# Altium integrated library Analog Devices Data Converters Digital-to-Analog Converters.IntLib: 2231 symbols (part 8 of 181)
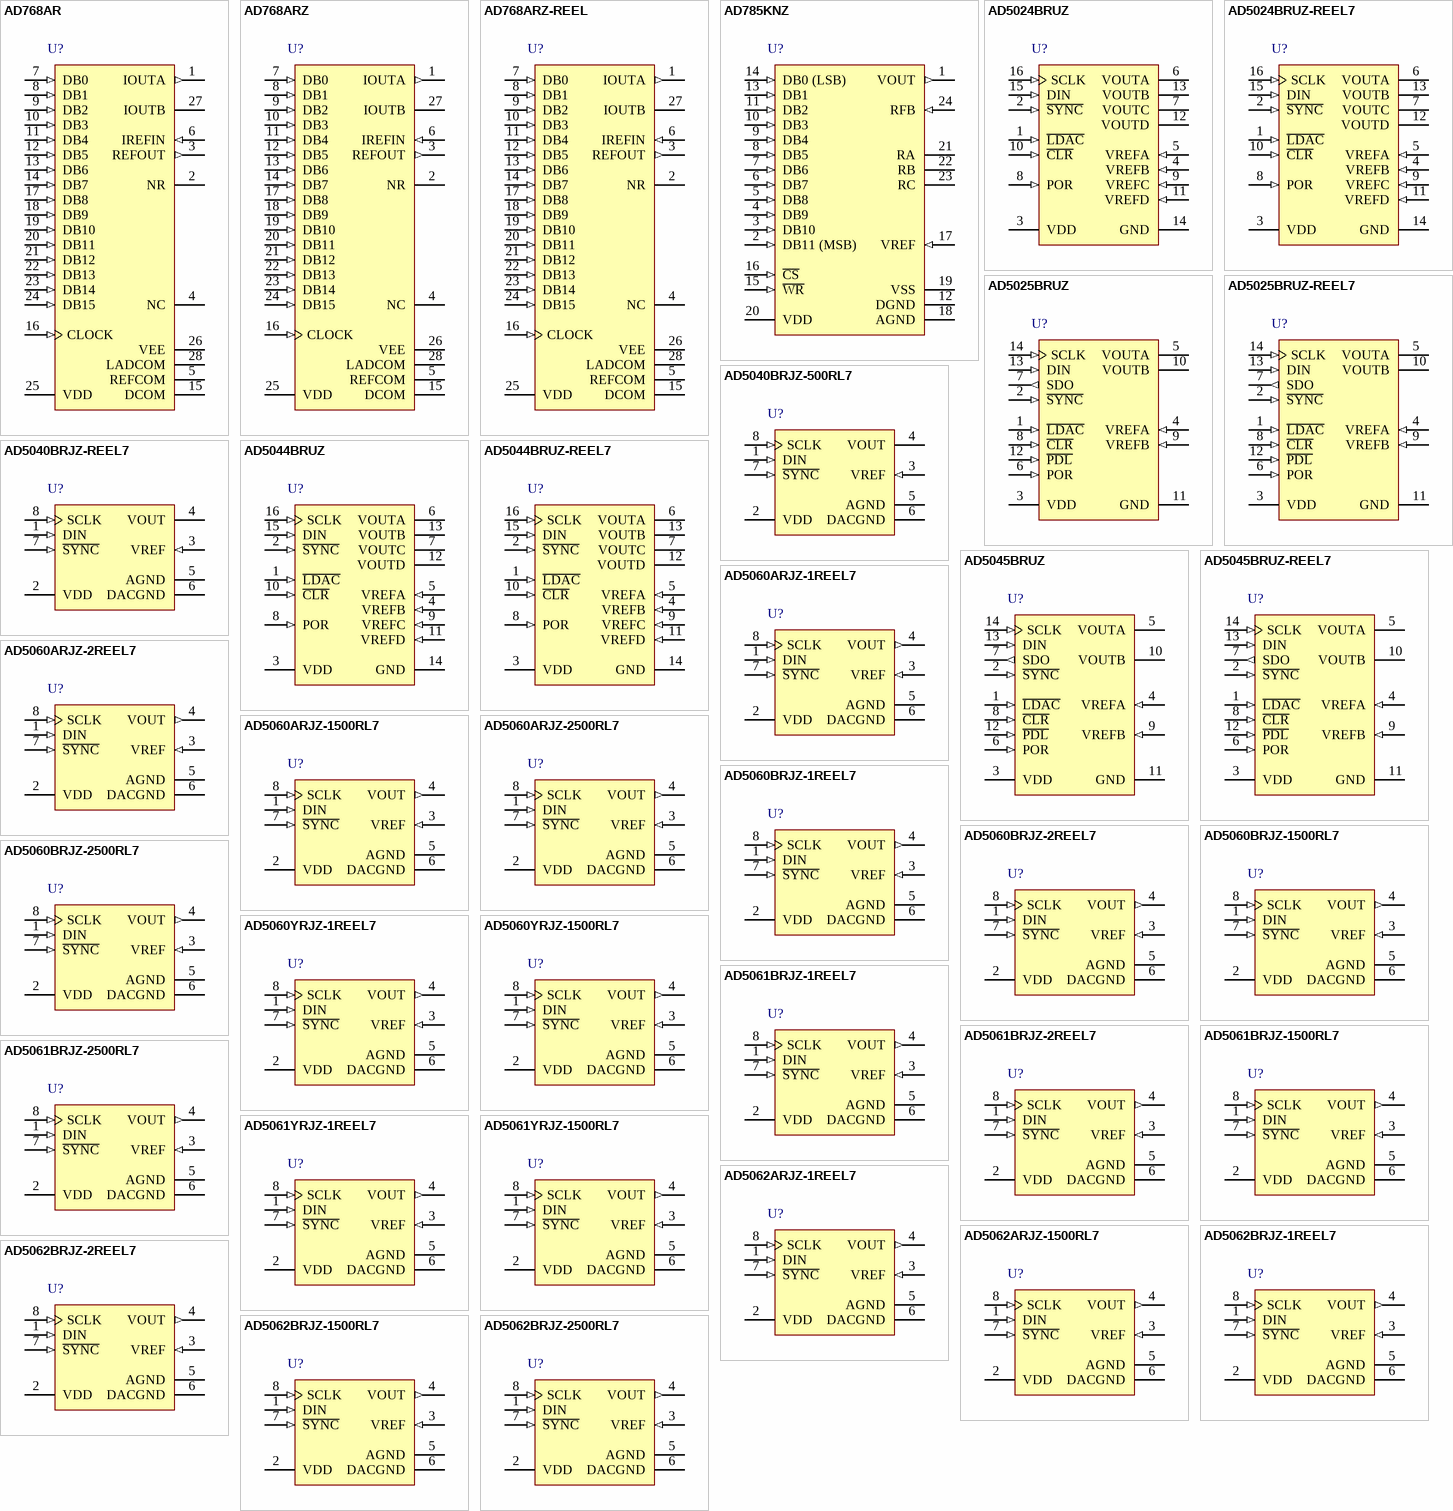
[diagram p121: symbols AD768AR to AD5062BRJZ-2500RL7]

## AD768AR
designator U?
Single 16-Bit Digital-to-Analog Converter, -40 to +85 degC, RW-28, Tube; Generic Part Number: AD768; Manufacturer: Analog Devices; PartNumber: AD768AR; # DAC Outputs: 1; Max V+: 5.25V; Op Pwr Diss: 600mW; Resolution (Bits): 16; Settling Time: 25ns; Single Supply: No; DatasheetVersion: Rev.B; PackageVersion: 060706-A; PackageReference: RW-28; PackageDescription: 28-Lead Standard Small Outline Package [SOIC_W]; Supplier 1: Digi-Key; Supplier Part Number 1: AD768AR-ND; Supplier 2: Mouser; Supplier Part Number 2: 584-AD768AR; Packing: Tube; RoHS: N; Mounting Technology: Surface Mount; Code_JEDEC: MS-013-AE; ComponentLink1Description: Manufacturer URL; ComponentLink1URL: http://www.analog.com/en/index.html; ComponentLink2Description: Datasheet; ComponentLink2URL: http://www.analog.com/static/imported-files/data_sheets/AD768.pdf; ComponentLink3Description: Product URL; ComponentLink3URL: http://www.analog.com/en/digital-to-analog-converters/da-converters/ad768/products/product.html
footprint RW-28_N (SOIC, 28-Leads, Body 17.9x7.5mm, Pitch 1.27mm, IPC Medium Density)
footprint RW-28_L (SOIC, 28-Leads, Body 17.9x7.5mm, Pitch 1.27mm, IPC High Density)
footprint RW-28_M (SOIC, 28-Leads, Body 17.9x7.5mm, Pitch 1.27mm, IPC Low Density)
pins: 1 IOUTA (out) "DAC Current Output. Full-scale current when all data bits are 1s.", 2 NR "Noise Reduction Node. Add capacitor for noise reduction.", 3 REFOUT (out) "Reference Output Voltage. Nominal value is 2.5 V.", 4 NC "No Connect. Reserved for internal use.", 5 REFCOM (power) "Reference Ground.", 6 IREFIN (in) "Reference Input Current. Nominal is 5 mA. DAC full-scale is 4x this current.", 7 DB0 (in) "Data Bit 0 (LSB).", 8 DB1 (in) "Data Bit 1", 9 DB2 (in) "Data Bit 2", 10 DB3 (in) "Data Bit 3", 11 DB4 (in) "Data Bit 4", 12 DB5 (in) "Data Bit 5", 13 DB6 (in) "Data Bit 6", 14 DB7 (in) "Data Bit 7", 15 DCOM (power) "Digital Ground.", 16 CLOCK (in) "Clock Input. Data latched on positive edge of clock.", 17 DB8 (in) "Data Bit 8", 18 DB9 (in) "Data Bit 9", 19 DB10 (in) "Data Bit 10", 20 DB11 (in) "Data Bit 11", 21 DB12 (in) "Data Bit 12", 22 DB13 (in) "Data Bit 13", 23 DB14 (in) "Data Bit 14", 24 DB15 (in) "Data Bit 15 (MSB).", 25 VDD (power) "Positive Supply Voltage. Nominal is +5 V.", 26 VEE (power) "Negative Supply Voltage. Nominal is -5 V.", 27 IOUTB "Complementary DAC Current Output. Full-scale current when all data bits are 0s.", 28 LADCOM (power) "DAC Ladder Common."

## AD768ARZ
designator U?
Single 16-Bit Digital-to-Analog Converter, -40 to +85 degC, RW-28, Pb-Free, Tube; Generic Part Number: AD768; Manufacturer: Analog Devices; PartNumber: AD768ARZ; # DAC Outputs: 1; Max V+: 5.25V; Op Pwr Diss: 600mW; Resolution (Bits): 16; Settling Time: 25ns; Single Supply: No; DatasheetVersion: Rev.B; PackageVersion: 060706-A; PackageReference: RW-28; PackageDescription: 28-Lead Standard Small Outline Package [SOIC_W]; Supplier 1: Digi-Key; Supplier Part Number 1: AD768ARZ-ND; Supplier 2: Farnell; Supplier Part Number 2: 9426442; Supplier 3: Newark; Supplier Part Number 3: 15P0834; Supplier 4: Newark; Supplier Part Number 4: 96K2103; Supplier 5: Mouser; Supplier Part Number 5: 584-AD768ARZ; Packing: Tube; RoHS: Y; Mounting Technology: Surface Mount; Code_JEDEC: MS-013-AE; ComponentLink1Description: Manufacturer URL; ComponentLink1URL: http://www.analog.com/en/index.html; ComponentLink2Description: Datasheet; ComponentLink2URL: http://www.analog.com/static/imported-files/data_sheets/AD768.pdf; ComponentLink3Description: Product URL; ComponentLink3URL: http://www.analog.com/en/digital-to-analog-converters/da-converters/ad768/products/product.html
footprint RW-28_N (SOIC, 28-Leads, Body 17.9x7.5mm, Pitch 1.27mm, IPC Medium Density)
footprint RW-28_L (SOIC, 28-Leads, Body 17.9x7.5mm, Pitch 1.27mm, IPC High Density)
footprint RW-28_M (SOIC, 28-Leads, Body 17.9x7.5mm, Pitch 1.27mm, IPC Low Density)
pins: 1 IOUTA (out) "DAC Current Output. Full-scale current when all data bits are 1s.", 2 NR "Noise Reduction Node. Add capacitor for noise reduction.", 3 REFOUT (out) "Reference Output Voltage. Nominal value is 2.5 V.", 4 NC "No Connect. Reserved for internal use.", 5 REFCOM (power) "Reference Ground.", 6 IREFIN (in) "Reference Input Current. Nominal is 5 mA. DAC full-scale is 4x this current.", 7 DB0 (in) "Data Bit 0 (LSB).", 8 DB1 (in) "Data Bit 1", 9 DB2 (in) "Data Bit 2", 10 DB3 (in) "Data Bit 3", 11 DB4 (in) "Data Bit 4", 12 DB5 (in) "Data Bit 5", 13 DB6 (in) "Data Bit 6", 14 DB7 (in) "Data Bit 7", 15 DCOM (power) "Digital Ground.", 16 CLOCK (in) "Clock Input. Data latched on positive edge of clock.", 17 DB8 (in) "Data Bit 8", 18 DB9 (in) "Data Bit 9", 19 DB10 (in) "Data Bit 10", 20 DB11 (in) "Data Bit 11", 21 DB12 (in) "Data Bit 12", 22 DB13 (in) "Data Bit 13", 23 DB14 (in) "Data Bit 14", 24 DB15 (in) "Data Bit 15 (MSB).", 25 VDD (power) "Positive Supply Voltage. Nominal is +5 V.", 26 VEE (power) "Negative Supply Voltage. Nominal is -5 V.", 27 IOUTB "Complementary DAC Current Output. Full-scale current when all data bits are 0s.", 28 LADCOM (power) "DAC Ladder Common."

## AD768ARZ-REEL
designator U?
Single 16-Bit Digital-to-Analog Converter, -40 to +85 degC, RW-28, Pb-Free, Reel; Generic Part Number: AD768; Manufacturer: Analog Devices; PartNumber: AD768ARZ-REEL; # DAC Outputs: 1; Max V+: 5.25V; Op Pwr Diss: 600mW; Resolution (Bits): 16; Settling Time: 25ns; Single Supply: No; DatasheetVersion: Rev.B; PackageVersion: 060706-A; PackageReference: RW-28; PackageDescription: 28-Lead Standard Small Outline Package [SOIC_W]; Supplier 1: Digi-Key; Supplier Part Number 1: AD768ARZ-REEL-ND; Supplier 2: Newark; Supplier Part Number 2: 28M4057; Supplier 3: Mouser; Supplier Part Number 3: 584-AD768ARZ-R; Packing: Reel; RoHS: Y; Mounting Technology: Surface Mount; Code_JEDEC: MS-013-AE; ComponentLink1Description: Manufacturer URL; ComponentLink1URL: http://www.analog.com/en/index.html; ComponentLink2Description: Datasheet; ComponentLink2URL: http://www.analog.com/static/imported-files/data_sheets/AD768.pdf; ComponentLink3Description: Product URL; ComponentLink3URL: http://www.analog.com/en/digital-to-analog-converters/da-converters/ad768/products/product.html
footprint RW-28_N (SOIC, 28-Leads, Body 17.9x7.5mm, Pitch 1.27mm, IPC Medium Density)
footprint RW-28_L (SOIC, 28-Leads, Body 17.9x7.5mm, Pitch 1.27mm, IPC High Density)
footprint RW-28_M (SOIC, 28-Leads, Body 17.9x7.5mm, Pitch 1.27mm, IPC Low Density)
pins: 1 IOUTA (out) "DAC Current Output. Full-scale current when all data bits are 1s.", 2 NR "Noise Reduction Node. Add capacitor for noise reduction.", 3 REFOUT (out) "Reference Output Voltage. Nominal value is 2.5 V.", 4 NC "No Connect. Reserved for internal use.", 5 REFCOM (power) "Reference Ground.", 6 IREFIN (in) "Reference Input Current. Nominal is 5 mA. DAC full-scale is 4x this current.", 7 DB0 (in) "Data Bit 0 (LSB).", 8 DB1 (in) "Data Bit 1", 9 DB2 (in) "Data Bit 2", 10 DB3 (in) "Data Bit 3", 11 DB4 (in) "Data Bit 4", 12 DB5 (in) "Data Bit 5", 13 DB6 (in) "Data Bit 6", 14 DB7 (in) "Data Bit 7", 15 DCOM (power) "Digital Ground.", 16 CLOCK (in) "Clock Input. Data latched on positive edge of clock.", 17 DB8 (in) "Data Bit 8", 18 DB9 (in) "Data Bit 9", 19 DB10 (in) "Data Bit 10", 20 DB11 (in) "Data Bit 11", 21 DB12 (in) "Data Bit 12", 22 DB13 (in) "Data Bit 13", 23 DB14 (in) "Data Bit 14", 24 DB15 (in) "Data Bit 15 (MSB).", 25 VDD (power) "Positive Supply Voltage. Nominal is +5 V.", 26 VEE (power) "Negative Supply Voltage. Nominal is -5 V.", 27 IOUTB "Complementary DAC Current Output. Full-scale current when all data bits are 0s.", 28 LADCOM (power) "DAC Ladder Common."

## AD785KNZ
designator U?
Single 12-Bit LC2MOS Complete Digital-to-Analog Converter, 0 to +70 degC, N-24-1, Tube; Generic Part Number: AD7845; Manufacturer: Analog Devices; PartNumber: AD785KNZ; # DAC Outputs: 1; Max V+: 15.75V; Op Pwr Diss: 150mW; Resolution (Bits): 12; Settling Time: 5µs; Single Supply: No; DatasheetVersion: Rev.B; PackageVersion: 071006-A; PackageReference: N-24-1; PackageDescription: 24-Lead Plastic Dual In-Line Package [PDIP] Narrow Body; Supplier 1: Mouser; Supplier Part Number 1: N/A; Packing: Tube; RoHS: N; Mounting Technology: Through Hole; Code_JEDEC: MS-001; ComponentLink1Description: Manufacturer URL; ComponentLink1URL: http://www.analog.com/en/index.html; ComponentLink2Description: Datasheet; ComponentLink2URL: http://www.analog.com/static/imported-files/data_sheets/AD7845.pdf; ComponentLink3Description: Package Specification; ComponentLink3URL: http://www.analog.com/static/imported-files/packages/50726455539629N_24_1.pdf; ComponentLink4Description: Product URL; ComponentLink4URL: http://www.analog.com/en/digital-to-analog-converters/da-converters/ad7845/products/product.html
footprint N-24-1 (DIP, 24-Leads, Row Spacing 7.62mm, Pitch 2.54mm, Body 31.9x6.6mm)
pins: 1 VOUT (out) "Voltage Output Terminal", 2 DB11 (MSB) (in) "Data Bit 11 (MSB)", 3 DB10 (in) "Data Bit 10", 4 DB9 (in) "Data Bit 9", 5 DB8 (in) "Data Bit 8", 6 DB7 (in) "Data Bit 7", 7 DB6 (in) "Data Bit 6", 8 DB5 (in) "Data Bit 5", 9 DB4 (in) "Data Bit 4", 10 DB3 (in) "Data Bit 3", 11 DB2 (in) "Data Bit 2", 12 DGND (power) "Digital Ground. The metal lid on the ceramic package is connected to this pin", 13 DB1 (in) "Data Bit 1", 14 DB0 (LSB) (in) "Data Bit 0 (LSB)", 15 ~{WR} (in) "Write Input. Active low", 16 ~{CS} (in) "Chip Select Input. Active low", 17 VREF (in) "Reference Input Voltage which can be an ac or dc signal", 18 AGND (power) "Analog Ground. This is the reference point for external analog circuitry", 19 VSS (power) "Negative power supply for the output amplifier (nominal -12 V to +15 V)", 20 VDD (power) "Positive power supply (nominal +12 V to +15 V)", 21 RA "Application resistor. RA = 4 RFB", 22 RB "Application resistor. RB = 2 RFB", 23 RC "Application resistor. RC = 2 RFB", 24 RFB (in) "Feedback resistor in the DAC. For normal operation this is connected to VOUT"

## AD5024BRUZ
designator U?
Quad 12-Bit Voltage Output nanoDAC with SPI Interface, -40 to +125 degC, RU-16, Pb-Free, Tube; Generic Part Number: AD5024; Manufacturer: Analog Devices; PartNumber: AD5024BRUZ; # DAC Outputs: 4; Max V+: 5.5V; Op Pwr Diss: 20mW; Resolution (Bits): 12; Settling Time: 8µs; Single Supply: Yes; DatasheetVersion: Rev.E; PackageVersion: Nov-2002; PackageReference: RU-16; PackageDescription: 16-Lead Thin Shrink Small Outline Package [TSSOP]; Supplier 1: Digi-Key; Supplier Part Number 1: AD5024BRUZ-ND; Supplier 2: Farnell; Supplier Part Number 2: 2067817; Supplier 3: Newark; Supplier Part Number 3: 07P8929; Supplier 4: Mouser; Supplier Part Number 4: 584-AD5024BRUZ; Packing: Tube; RoHS: Y; Mounting Technology: Surface Mount; Code_JEDEC: MO-153-AB; ComponentLink1Description: Manufacturer URL; ComponentLink1URL: http://www.analog.com/en/index.html; ComponentLink2Description: Datasheet; ComponentLink2URL: http://www.analog.com/static/imported-files/data_sheets/AD5024_AD5044_AD5064.pdf; ComponentLink3Description: Package Specification; ComponentLink3URL: http://www.analog.com/static/imported-files/packages/36244347913743854010197452789RU16.pdf; ComponentLink4Description: Product URL; ComponentLink4URL: http://www.analog.com/en/digital-to-analog-converters/da-converters/ad5024/products/product.html
footprint RU-16_N (TSOP, 16-Leads, Body 5x4.4mm, Pitch 0.65mm, IPC Medium Density)
footprint RU-16_L (TSOP, 16-Leads, Body 5x4.4mm, Pitch 0.65mm, IPC High Density)
footprint RU-16_M (TSOP, 16-Leads, Body 5x4.4mm, Pitch 0.65mm, IPC Low Density)
pins: 1 ~{LDAC} (in) "L\D\A\C\ can be operated in two modes, asynchronously and synchronously, as shown in Figure4. Pulsing this pin low allows any or all DAC registers to be updated if the input registers have new data. This allows all DAC (See Datasheet)", 2 ~{SYNC} (in) "Active Low Control Input. This is the frame synchronization signal for the input data. When S\Y\N\C\ goes low, it powers on the SCLK and DIN buffers and enables the shift register. Data is transferred in on the falling edges (See Datasheet)", 3 VDD (power) "Power Supply Input. These parts can be operated from 4.5 V to 5.5 V, and the supply should be decoupled with a 10 uF capacitor in parallel with a 0.1 uF capacitor to GND.", 4 VREFB (in) "DAC B Reference Input. This is the reference voltage input pin for DAC B.", 5 VREFA (in) "DAC A Reference Input. This is the reference voltage input pin for DAC A.", 6 VOUTA (hiz) "Analog Output Voltage from DAC A. The output amplifier has rail-to-rail operation.", 7 VOUTC (hiz) "Analog Output Voltage from DAC C. The output amplifier has rail-to-rail operation.", 8 POR (in) "Power-On Reset. Tying this pin to GND powers up the part to 0 V. Tying this pin to VDD powers up the part to midscale.", 9 VREFC (in) "DAC C Reference Input. This is the reference voltage input pin for DAC C.", 10 ~{CLR} (in) "Asynchronous Clear Input. The C\L\R\ input is falling edge sensitive. When C\L\R\ is low, all L\D\A\C\ pulses are ignored. When C\L\R\ is activated, the input register and the DAC register are updated with the data contained (See Datasheet)", 11 VREFD (in) "DAC D Reference Input. This is the reference voltage input pin for DAC D.", 12 VOUTD (hiz) "Analog Output Voltage from DAC D. The output amplifier has rail-to-rail operation.", 13 VOUTB (hiz) "Analog Output Voltage from DAC B. The output amplifier has rail-to-rail operation.", 14 GND (power) "Ground Reference Point for All Circuitry on the Part.", 15 DIN (in) "Serial Data Input. This device has a 32-bit shift register. Data is clocked into the shift register on the falling edge of the serial clock input.", 16 SCLK (in) "Serial Clock Input. Data is clocked into the shift register on the falling edge of the serial clock input. Data can be transferred at rates of up to 50 MHz."

## AD5024BRUZ-REEL7
designator U?
Quad 12-Bit Fully Accurate Voltage Output nanoDAC with SPI Interface, 5 V, -40 to +125 degC, RU-16, Pb-Free, Reel; Generic Part Number: AD5024; Manufacturer: Analog Devices; PartNumber: AD5024BRUZ-REEL7; # DAC Outputs: 4; Max V+: 5.5V; Op Pwr Diss: 20mW; Resolution (Bits): 12; Settling Time: 8µs; Single Supply: Yes; DatasheetVersion: Rev.E; PackageVersion: Nov-2002; PackageReference: RU-16; PackageDescription: 16-Lead Thin Shrink Small Outline Package [TSSOP]; Supplier 1: Digi-Key; Supplier Part Number 1: AD5024BRUZ-REEL7-ND; Supplier 2: Mouser; Supplier Part Number 2: 584-AD5024BRUZ-R7; Packing: Reel; RoHS: Y; Mounting Technology: Surface Mount; Code_JEDEC: MO-153-AB; ComponentLink1Description: Manufacturer URL; ComponentLink1URL: http://www.analog.com/en/index.html; ComponentLink2Description: Datasheet; ComponentLink2URL: http://www.analog.com/static/imported-files/data_sheets/AD5024_AD5044_AD5064.pdf; ComponentLink3Description: Package Specification; ComponentLink3URL: http://www.analog.com/static/imported-files/packages/36244347913743854010197452789RU16.pdf; ComponentLink4Description: Product URL; ComponentLink4URL: http://www.analog.com/en/digital-to-analog-converters/da-converters/ad5024/products/product.html
footprint RU-16_N (TSOP, 16-Leads, Body 5x4.4mm, Pitch 0.65mm, IPC Medium Density)
footprint RU-16_L (TSOP, 16-Leads, Body 5x4.4mm, Pitch 0.65mm, IPC High Density)
footprint RU-16_M (TSOP, 16-Leads, Body 5x4.4mm, Pitch 0.65mm, IPC Low Density)
pins: 1 ~{LDAC} (in) "L\D\A\C\ can be operated in two modes, asynchronously and synchronously, as shown in Figure4. Pulsing this pin low allows any or all DAC registers to be updated if the input registers have new data. This allows all DAC (See Datasheet)", 2 ~{SYNC} (in) "Active Low Control Input. This is the frame synchronization signal for the input data. When S\Y\N\C\ goes low, it powers on the SCLK and DIN buffers and enables the shift register. Data is transferred in on the falling edges (See Datasheet)", 3 VDD (power) "Power Supply Input. These parts can be operated from 4.5 V to 5.5 V, and the supply should be decoupled with a 10 uF capacitor in parallel with a 0.1 uF capacitor to GND.", 4 VREFB (in) "DAC B Reference Input. This is the reference voltage input pin for DAC B.", 5 VREFA (in) "DAC A Reference Input. This is the reference voltage input pin for DAC A.", 6 VOUTA (hiz) "Analog Output Voltage from DAC A. The output amplifier has rail-to-rail operation.", 7 VOUTC (hiz) "Analog Output Voltage from DAC C. The output amplifier has rail-to-rail operation.", 8 POR (in) "Power-On Reset. Tying this pin to GND powers up the part to 0 V. Tying this pin to VDD powers up the part to midscale.", 9 VREFC (in) "DAC C Reference Input. This is the reference voltage input pin for DAC C.", 10 ~{CLR} (in) "Asynchronous Clear Input. The C\L\R\ input is falling edge sensitive. When C\L\R\ is low, all L\D\A\C\ pulses are ignored. When C\L\R\ is activated, the input register and the DAC register are updated with the data contained (See Datasheet)", 11 VREFD (in) "DAC D Reference Input. This is the reference voltage input pin for DAC D.", 12 VOUTD (hiz) "Analog Output Voltage from DAC D. The output amplifier has rail-to-rail operation.", 13 VOUTB (hiz) "Analog Output Voltage from DAC B. The output amplifier has rail-to-rail operation.", 14 GND (power) "Ground Reference Point for All Circuitry on the Part.", 15 DIN (in) "Serial Data Input. This device has a 32-bit shift register. Data is clocked into the shift register on the falling edge of the serial clock input.", 16 SCLK (in) "Serial Clock Input. Data is clocked into the shift register on the falling edge of the serial clock input. Data can be transferred at rates of up to 50 MHz."

## AD5025BRUZ
designator U?
Dual 12-Bit Fully Accurate RF nanoDAC with SPI Interface, -40 to +125 degC, RU-14, Pb-Free, Tube; Generic Part Number: AD5025; Manufacturer: Analog Devices; PartNumber: AD5025BRUZ; # DAC Outputs: 2; Max V+: 5.5V; Op Pwr Diss: 13.5mW; Resolution (Bits): 12; Settling Time: 10.7µs; Single Supply: Yes; DatasheetVersion: Rev.0; PackageVersion: Aug-2002; PackageReference: RU-14; PackageDescription: 14-Lead Thin Shrink Small Outline Package [TSSOP]; Supplier 1: Digi-Key; Supplier Part Number 1: AD5025BRUZ-ND; Supplier 2: Farnell; Supplier Part Number 2: 2067818; Supplier 3: Newark; Supplier Part Number 3: 34P3154; Supplier 4: Mouser; Supplier Part Number 4: 584-AD5025BRUZ; Packing: Tube; RoHS: Y; Mounting Technology: Surface Mount; Code_JEDEC: MO-153-AB-1; ComponentLink1Description: Manufacturer URL; ComponentLink1URL: http://www.analog.com/en/index.html; ComponentLink2Description: Datasheet; ComponentLink2URL: http://www.analog.com/static/imported-files/data_sheets/AD5025_5045_5065.pdf; ComponentLink3Description: Package Specification; ComponentLink3URL: http://www.analog.com/static/imported-files/packages/36057385283879153717235186773RU14.pdf; ComponentLink4Description: Product URL; ComponentLink4URL: http://www.analog.com/en/digital-to-analog-converters/da-converters/ad5025/products/product.html
footprint RU-14_N (TSOP, 14-Leads, Body 5x4.4mm, Pitch 0.65mm, IPC Medium Density)
footprint RU-14_L (TSOP, 14-Leads, Body 5x4.4mm, Pitch 0.65mm, IPC High Density)
footprint RU-14_M (TSOP, 14-Leads, Body 5x4.4mm, Pitch 0.65mm, IPC Low Density)
pins: 1 ~{LDAC} (in) "Pulsing this pin low allows any or all DAC registers to be updated if the input registers have new data. This allows all DAC outputs to simultaneously update. This pin can be tied permanently low in standalone mode. When (See Datasheet)", 2 ~{SYNC} (in) "Active Low Control Input. This is the frame synchronization signal for the input data. When S\Y\N\C\ goes low, it powers on the SCLK and DIN buffers and enables the input register. Data is transferred in on the falling edges (See Datasheet)", 3 VDD (power) "Power Supply Input. These parts can be operated from 4.5 V to 5.5 V, and the supply should be decoupled with a 10 uF capacitor in parallel with a 0.1 uF capacitor to GND.", 4 VREFA (in) "DAC A Reference Input. This is the reference voltage input pin for DAC A.", 5 VOUTA (hiz) "Analog Output Voltage from DAC A. The output amplifier has rail-to-rail operation.", 6 POR (in) "Power-On Reset Pin. Tying this pin to GND powers up the part to 0 V. Tying this pin to VDD powers up the part to midscale.", 7 SDO (out) "Serial Data Output. Can be used for daisy-chaining a number of these devices together or for reading back the data in the shift register for diagnostic purposes. The serial data is transferred on the rising edge of SCLK and (See Datasheet)", 8 ~{CLR} (in) "Asynchronous Clear Input. The C\L\R\ input is falling edge sensitive. When C\L\R\ is low, all L\D\A\C\ pulses are ignored. When C\L\R\ is activated, the input register and the DAC register are updated with the data contained (See Datasheet)", 9 VREFB (in) "DAC B Reference Input. This is the reference voltage input pin for DAC B.", 10 VOUTB (hiz) "Analog Output Voltage from DAC B. The output amplifier has rail-to-rail operation.", 11 GND (power) "Ground Reference Point for All Circuitry on the Part.", 12 ~{PDL} (in) "The P\D\L\ pin is used to ensure hardware shutdown lockout of the device under any circumstance. A Logic 1 at the P\L\O\ pin causes the device to behave as normal. The user may successfully enter software power-down over the (See Datasheet)", 13 DIN (in) "Serial Data Input. This device has a 32-bit shift register. Data is clocked into the register on the falling edge of the serial clock input.", 14 SCLK (in) "Serial Clock Input. Data is clocked into the input register on the falling edge of the serial clock input. Data can be transferred at rates of up to 50 MHz."

## AD5025BRUZ-REEL7
designator U?
Dual 12-Bit Fully Accurate RF nanoDAC with SPI Interface, -40 to +125 degC, RU-14, Pb-Free, Reel; Generic Part Number: AD5025; Manufacturer: Analog Devices; PartNumber: AD5025BRUZ-REEL7; # DAC Outputs: 2; Max V+: 5.5V; Op Pwr Diss: 13.5mW; Resolution (Bits): 12; Settling Time: 10.7µs; Single Supply: Yes; DatasheetVersion: Rev.0; PackageVersion: Aug-2002; PackageReference: RU-14; PackageDescription: 14-Lead Thin Shrink Small Outline Package [TSSOP]; Supplier 1: Digi-Key; Supplier Part Number 1: AD5025BRUZ-REEL7TR-ND; Supplier 2: Digi-Key; Supplier Part Number 2: AD5025BRUZ-REEL7CT-ND; Supplier 3: Digi-Key; Supplier Part Number 3: AD5025BRUZ-REEL7DKR-ND; Supplier 4: Newark; Supplier Part Number 4: 34P3155; Supplier 5: Mouser; Supplier Part Number 5: 584-AD5025BRUZ-R7; Packing: Reel; RoHS: Y; Mounting Technology: Surface Mount; Code_JEDEC: MO-153-AB-1; ComponentLink1Description: Manufacturer URL; ComponentLink1URL: http://www.analog.com/en/index.html; ComponentLink2Description: Datasheet; ComponentLink2URL: http://www.analog.com/static/imported-files/data_sheets/AD5025_5045_5065.pdf; ComponentLink3Description: Package Specification; ComponentLink3URL: http://www.analog.com/static/imported-files/packages/36057385283879153717235186773RU14.pdf; ComponentLink4Description: Product URL; ComponentLink4URL: http://www.analog.com/en/digital-to-analog-converters/da-converters/ad5025/products/product.html
footprint RU-14_N (TSOP, 14-Leads, Body 5x4.4mm, Pitch 0.65mm, IPC Medium Density)
footprint RU-14_L (TSOP, 14-Leads, Body 5x4.4mm, Pitch 0.65mm, IPC High Density)
footprint RU-14_M (TSOP, 14-Leads, Body 5x4.4mm, Pitch 0.65mm, IPC Low Density)
pins: 1 ~{LDAC} (in) "Pulsing this pin low allows any or all DAC registers to be updated if the input registers have new data. This allows all DAC outputs to simultaneously update. This pin can be tied permanently low in standalone mode. When (See Datasheet)", 2 ~{SYNC} (in) "Active Low Control Input. This is the frame synchronization signal for the input data. When S\Y\N\C\ goes low, it powers on the SCLK and DIN buffers and enables the input register. Data is transferred in on the falling edges (See Datasheet)", 3 VDD (power) "Power Supply Input. These parts can be operated from 4.5 V to 5.5 V, and the supply should be decoupled with a 10 uF capacitor in parallel with a 0.1 uF capacitor to GND.", 4 VREFA (in) "DAC A Reference Input. This is the reference voltage input pin for DAC A.", 5 VOUTA (hiz) "Analog Output Voltage from DAC A. The output amplifier has rail-to-rail operation.", 6 POR (in) "Power-On Reset Pin. Tying this pin to GND powers up the part to 0 V. Tying this pin to VDD powers up the part to midscale.", 7 SDO (out) "Serial Data Output. Can be used for daisy-chaining a number of these devices together or for reading back the data in the shift register for diagnostic purposes. The serial data is transferred on the rising edge of SCLK and (See Datasheet)", 8 ~{CLR} (in) "Asynchronous Clear Input. The C\L\R\ input is falling edge sensitive. When C\L\R\ is low, all L\D\A\C\ pulses are ignored. When C\L\R\ is activated, the input register and the DAC register are updated with the data contained (See Datasheet)", 9 VREFB (in) "DAC B Reference Input. This is the reference voltage input pin for DAC B.", 10 VOUTB (hiz) "Analog Output Voltage from DAC B. The output amplifier has rail-to-rail operation.", 11 GND (power) "Ground Reference Point for All Circuitry on the Part.", 12 ~{PDL} (in) "The P\D\L\ pin is used to ensure hardware shutdown lockout of the device under any circumstance. A Logic 1 at the P\L\O\ pin causes the device to behave as normal. The user may successfully enter software power-down over the (See Datasheet)", 13 DIN (in) "Serial Data Input. This device has a 32-bit shift register. Data is clocked into the register on the falling edge of the serial clock input.", 14 SCLK (in) "Serial Clock Input. Data is clocked into the input register on the falling edge of the serial clock input. Data can be transferred at rates of up to 50 MHz."

## AD5040BRJZ-500RL7
designator U?
Single 14-Bit Fully Accurate Voltage Output nanoDAC with SPI Interface, 2.7 to 5.5 V, -40 to +85 degC, RJ-8, Pb-Free, Reel; Generic Part Number: AD5040; Manufacturer: Analog Devices; PartNumber: AD5040BRJZ-500RL7; # DAC Outputs: 1; Max V+: 5.5V; Op Pwr Diss: 6mW; Resolution (Bits): 14; Settling Time: 4µs; Single Supply: Yes; DatasheetVersion: Rev.A; PackageVersion: 121608-A; PackageReference: RJ-8; PackageDescription: 8-Lead Thin Small Outline Transistor Package [SOT-23]; Supplier 1: Digi-Key; Supplier Part Number 1: AD5040BRJZ-500RL7-ND; Supplier 2: Farnell; Supplier Part Number 2: 2067819; Supplier 3: Farnell; Supplier Part Number 3: 2373780; Supplier 4: Newark; Supplier Part Number 4: 12M8475; Supplier 5: Newark; Supplier Part Number 5: 72T0890; Supplier 6: Mouser; Supplier Part Number 6: 584-AD5040BRJZ-500R7; Packing: Reel; RoHS: Y; Mounting Technology: Surface Mount; Code_JEDEC: MO-178-BA; ComponentLink1Description: Manufacturer URL; ComponentLink1URL: http://www.analog.com/en/index.html; ComponentLink2Description: Datasheet; ComponentLink2URL: http://www.analog.com/static/imported-files/data_sheets/AD5040_5060.pdf; ComponentLink3Description: Package Specification; ComponentLink3URL: http://www.analog.com/static/imported-files/packages/PKG_PDF/SOT-23(RJ)/RJ_8.pdf; ComponentLink4Description: Product URL; ComponentLink4URL: http://www.analog.com/en/digital-to-analog-converters/da-converters/ad5040/products/product.html
footprint RJ-8_N (SOP, 8-Leads, Body 2.9x1.6mm, Pitch 0.65mm, IPC Medium Density)
footprint RJ-8_L (SOP, 8-Leads, Body 2.9x1.6mm, Pitch 0.65mm, IPC High Density)
footprint RJ-8_M (SOP, 8-Leads, Body 2.9x1.6mm, Pitch 0.65mm, IPC Low Density)
pins: 1 DIN (in) "Serial Data Input. These parts have a 16-/24-bit shift register. Data is clocked into the register on the falling edge of the serial clock input.", 2 VDD (power) "Power Supply Input. These parts can be operated from 2.7 V to 5.5 V and VDD should be decoupled to GND.", 3 VREF (in) "Reference Voltage Input.", 4 VOUT (hiz) "Analog Output Voltage from DAC.", 5 AGND (power) "Ground Reference Point for Analog Circuitry.", 6 DACGND (power) "Ground Input to the DAC Core.", 7 ~{SYNC} (in) "Level-Triggered Control Input (Active Low). This is the frame synchronization signal for the input data. When S\Y\N\C\ goes low, it enables the input shift register and data is transferred in on the falling edges of the (See Datasheet)", 8 SCLK (in) "Serial Clock Input. Data is clocked into the input shift register on the falling edge of the serial clock input. Data can be transferred at rates up to 30 MHz."

## AD5040BRJZ-REEL7
designator U?
Single 14-Bit Fully Accurate Voltage Output nanoDAC with SPI Interface, 2.7 to 5.5 V, -40 to +85 degC, RJ-8, Pb-Free, Reel; Generic Part Number: AD5040; Manufacturer: Analog Devices; PartNumber: AD5040BRJZ-REEL7; # DAC Outputs: 1; Max V+: 5.5V; Op Pwr Diss: 6mW; Resolution (Bits): 14; Settling Time: 4µs; Single Supply: Yes; DatasheetVersion: Rev.A; PackageVersion: 121608-A; PackageReference: RJ-8; PackageDescription: 8-Lead Thin Small Outline Transistor Package [SOT-23]; Supplier 1: Digi-Key; Supplier Part Number 1: AD5040BRJZ-REEL7TR-ND; Supplier 2: Digi-Key; Supplier Part Number 2: AD5040BRJZ-REEL7CT-ND; Supplier 3: Digi-Key; Supplier Part Number 3: AD5040BRJZ-REEL7DKR-ND; Supplier 4: Mouser; Supplier Part Number 4: 584-AD5040BRJZ-R7; Packing: Reel; RoHS: Y; Mounting Technology: Surface Mount; Code_JEDEC: MO-178-BA; ComponentLink1Description: Manufacturer URL; ComponentLink1URL: http://www.analog.com/en/index.html; ComponentLink2Description: Datasheet; ComponentLink2URL: http://www.analog.com/static/imported-files/data_sheets/AD5040_5060.pdf; ComponentLink3Description: Package Specification; ComponentLink3URL: http://www.analog.com/static/imported-files/packages/PKG_PDF/SOT-23(RJ)/RJ_8.pdf; ComponentLink4Description: Product URL; ComponentLink4URL: http://www.analog.com/en/digital-to-analog-converters/da-converters/ad5040/products/product.html
footprint RJ-8_N (SOP, 8-Leads, Body 2.9x1.6mm, Pitch 0.65mm, IPC Medium Density)
footprint RJ-8_L (SOP, 8-Leads, Body 2.9x1.6mm, Pitch 0.65mm, IPC High Density)
footprint RJ-8_M (SOP, 8-Leads, Body 2.9x1.6mm, Pitch 0.65mm, IPC Low Density)
pins: 1 DIN (in) "Serial Data Input. These parts have a 16-/24-bit shift register. Data is clocked into the register on the falling edge of the serial clock input.", 2 VDD (power) "Power Supply Input. These parts can be operated from 2.7 V to 5.5 V and VDD should be decoupled to GND.", 3 VREF (in) "Reference Voltage Input.", 4 VOUT (hiz) "Analog Output Voltage from DAC.", 5 AGND (power) "Ground Reference Point for Analog Circuitry.", 6 DACGND (power) "Ground Input to the DAC Core.", 7 ~{SYNC} (in) "Level-Triggered Control Input (Active Low). This is the frame synchronization signal for the input data. When S\Y\N\C\ goes low, it enables the input shift register and data is transferred in on the falling edges of the (See Datasheet)", 8 SCLK (in) "Serial Clock Input. Data is clocked into the input shift register on the falling edge of the serial clock input. Data can be transferred at rates up to 30 MHz."

## AD5044BRUZ
designator U?
Quad 14-Bit Fully Accurate Voltage Output nanoDAC with SPI Interface, 5 V, -40 to +125 degC, RU-16, Pb-Free, Tube; Generic Part Number: AD5044; Manufacturer: Analog Devices; PartNumber: AD5044BRUZ; # DAC Outputs: 4; Max V+: 5.5V; Op Pwr Diss: 20mW; Resolution (Bits): 14; Settling Time: 8µs; Single Supply: Yes; DatasheetVersion: Rev.E; PackageVersion: Nov-2002; PackageReference: RU-16; PackageDescription: 16-Lead Thin Shrink Small Outline Package [TSSOP]; Supplier 1: Digi-Key; Supplier Part Number 1: AD5044BRUZ-ND; Supplier 2: Farnell; Supplier Part Number 2: 2067820; Supplier 3: Newark; Supplier Part Number 3: 34P3156; Supplier 4: Mouser; Supplier Part Number 4: 584-AD5044BRUZ; Packing: Tube; RoHS: Y; Mounting Technology: Surface Mount; Code_JEDEC: MO-153-AB; ComponentLink1Description: Manufacturer URL; ComponentLink1URL: http://www.analog.com/en/index.html; ComponentLink2Description: Datasheet; ComponentLink2URL: http://www.analog.com/static/imported-files/data_sheets/AD5024_AD5044_AD5064.pdf; ComponentLink3Description: Package Specification; ComponentLink3URL: http://www.analog.com/static/imported-files/packages/36244347913743854010197452789RU16.pdf; ComponentLink4Description: Product URL; ComponentLink4URL: http://www.analog.com/en/digital-to-analog-converters/da-converters/ad5044/products/product.html
footprint RU-16_N (TSOP, 16-Leads, Body 5x4.4mm, Pitch 0.65mm, IPC Medium Density)
footprint RU-16_L (TSOP, 16-Leads, Body 5x4.4mm, Pitch 0.65mm, IPC High Density)
footprint RU-16_M (TSOP, 16-Leads, Body 5x4.4mm, Pitch 0.65mm, IPC Low Density)
pins: 1 ~{LDAC} (in) "L\D\A\C\ can be operated in two modes, asynchronously and synchronously, as shown in Figure4. Pulsing this pin low allows any or all DAC registers to be updated if the input registers have new data. This allows all DAC (See Datasheet)", 2 ~{SYNC} (in) "Active Low Control Input. This is the frame synchronization signal for the input data. When S\Y\N\C\ goes low, it powers on the SCLK and DIN buffers and enables the shift register. Data is transferred in on the falling edges (See Datasheet)", 3 VDD (power) "Power Supply Input. These parts can be operated from 4.5 V to 5.5 V, and the supply should be decoupled with a 10 uF capacitor in parallel with a 0.1 uF capacitor to GND.", 4 VREFB (in) "DAC B Reference Input. This is the reference voltage input pin for DAC B.", 5 VREFA (in) "DAC A Reference Input. This is the reference voltage input pin for DAC A.", 6 VOUTA (hiz) "Analog Output Voltage from DAC A. The output amplifier has rail-to-rail operation.", 7 VOUTC (hiz) "Analog Output Voltage from DAC C. The output amplifier has rail-to-rail operation.", 8 POR (in) "Power-On Reset. Tying this pin to GND powers up the part to 0 V. Tying this pin to VDD powers up the part to midscale.", 9 VREFC (in) "DAC C Reference Input. This is the reference voltage input pin for DAC C.", 10 ~{CLR} (in) "Asynchronous Clear Input. The C\L\R\ input is falling edge sensitive. When C\L\R\ is low, all L\D\A\C\ pulses are ignored. When C\L\R\ is activated, the input register and the DAC register are updated with the data contained (See Datasheet)", 11 VREFD (in) "DAC D Reference Input. This is the reference voltage input pin for DAC D.", 12 VOUTD (hiz) "Analog Output Voltage from DAC D. The output amplifier has rail-to-rail operation.", 13 VOUTB (hiz) "Analog Output Voltage from DAC B. The output amplifier has rail-to-rail operation.", 14 GND (power) "Ground Reference Point for All Circuitry on the Part.", 15 DIN (in) "Serial Data Input. This device has a 32-bit shift register. Data is clocked into the shift register on the falling edge of the serial clock input.", 16 SCLK (in) "Serial Clock Input. Data is clocked into the shift register on the falling edge of the serial clock input. Data can be transferred at rates of up to 50 MHz."

## AD5044BRUZ-REEL7
designator U?
Quad 14-Bit Fully Accurate Voltage Output nanoDAC with SPI Interface, 5 V, -40 to +125 degC, RU-16, Pb-Free, Reel; Generic Part Number: AD5044; Manufacturer: Analog Devices; PartNumber: AD5044BRUZ-REEL7; # DAC Outputs: 4; Max V+: 5.5V; Op Pwr Diss: 20mW; Resolution (Bits): 14; Settling Time: 8µs; Single Supply: Yes; DatasheetVersion: Rev.E; PackageVersion: Nov-2002; PackageReference: RU-16; PackageDescription: 16-Lead Thin Shrink Small Outline Package [TSSOP]; Supplier 1: Digi-Key; Supplier Part Number 1: AD5044BRUZ-REEL7-ND; Supplier 2: Mouser; Supplier Part Number 2: 584-AD5044BRUZ-R7; Packing: Reel; RoHS: Y; Mounting Technology: Surface Mount; Code_JEDEC: MO-153-AB; ComponentLink1Description: Manufacturer URL; ComponentLink1URL: http://www.analog.com/en/index.html; ComponentLink2Description: Datasheet; ComponentLink2URL: http://www.analog.com/static/imported-files/data_sheets/AD5024_AD5044_AD5064.pdf; ComponentLink3Description: Package Specification; ComponentLink3URL: http://www.analog.com/static/imported-files/packages/36244347913743854010197452789RU16.pdf; ComponentLink4Description: Product URL; ComponentLink4URL: http://www.analog.com/en/digital-to-analog-converters/da-converters/ad5044/products/product.html
footprint RU-16_N (TSOP, 16-Leads, Body 5x4.4mm, Pitch 0.65mm, IPC Medium Density)
footprint RU-16_L (TSOP, 16-Leads, Body 5x4.4mm, Pitch 0.65mm, IPC High Density)
footprint RU-16_M (TSOP, 16-Leads, Body 5x4.4mm, Pitch 0.65mm, IPC Low Density)
pins: 1 ~{LDAC} (in) "L\D\A\C\ can be operated in two modes, asynchronously and synchronously, as shown in Figure4. Pulsing this pin low allows any or all DAC registers to be updated if the input registers have new data. This allows all DAC (See Datasheet)", 2 ~{SYNC} (in) "Active Low Control Input. This is the frame synchronization signal for the input data. When S\Y\N\C\ goes low, it powers on the SCLK and DIN buffers and enables the shift register. Data is transferred in on the falling edges (See Datasheet)", 3 VDD (power) "Power Supply Input. These parts can be operated from 4.5 V to 5.5 V, and the supply should be decoupled with a 10 uF capacitor in parallel with a 0.1 uF capacitor to GND.", 4 VREFB (in) "DAC B Reference Input. This is the reference voltage input pin for DAC B.", 5 VREFA (in) "DAC A Reference Input. This is the reference voltage input pin for DAC A.", 6 VOUTA (hiz) "Analog Output Voltage from DAC A. The output amplifier has rail-to-rail operation.", 7 VOUTC (hiz) "Analog Output Voltage from DAC C. The output amplifier has rail-to-rail operation.", 8 POR (in) "Power-On Reset. Tying this pin to GND powers up the part to 0 V. Tying this pin to VDD powers up the part to midscale.", 9 VREFC (in) "DAC C Reference Input. This is the reference voltage input pin for DAC C.", 10 ~{CLR} (in) "Asynchronous Clear Input. The C\L\R\ input is falling edge sensitive. When C\L\R\ is low, all L\D\A\C\ pulses are ignored. When C\L\R\ is activated, the input register and the DAC register are updated with the data contained (See Datasheet)", 11 VREFD (in) "DAC D Reference Input. This is the reference voltage input pin for DAC D.", 12 VOUTD (hiz) "Analog Output Voltage from DAC D. The output amplifier has rail-to-rail operation.", 13 VOUTB (hiz) "Analog Output Voltage from DAC B. The output amplifier has rail-to-rail operation.", 14 GND (power) "Ground Reference Point for All Circuitry on the Part.", 15 DIN (in) "Serial Data Input. This device has a 32-bit shift register. Data is clocked into the shift register on the falling edge of the serial clock input.", 16 SCLK (in) "Serial Clock Input. Data is clocked into the shift register on the falling edge of the serial clock input. Data can be transferred at rates of up to 50 MHz."

## AD5045BRUZ
designator U?
Dual 14-Bit Fully Accurate nanoDAC with SPI Interface, -40 to +125 degC, RU-14, Pb-Free, Tube; Generic Part Number: AD5045; Manufacturer: Analog Devices; PartNumber: AD5045BRUZ; # DAC Outputs: 2; Max V+: 5.5V; Op Pwr Diss: 13.5mW; Resolution (Bits): 14; Settling Time: 10.7µs; Single Supply: Yes; DatasheetVersion: Rev.0; PackageVersion: Aug-2002; PackageReference: RU-14; PackageDescription: 14-Lead Thin Shrink Small Outline Package [TSSOP]; Supplier 1: Digi-Key; Supplier Part Number 1: AD5045BRUZ-ND; Supplier 2: Farnell; Supplier Part Number 2: 2067822; Supplier 3: Newark; Supplier Part Number 3: 34P3158; Supplier 4: Mouser; Supplier Part Number 4: 584-AD5045BRUZ; Packing: Tube; RoHS: Y; Mounting Technology: Surface Mount; Code_JEDEC: MO-153-AB-1; ComponentLink1Description: Manufacturer URL; ComponentLink1URL: http://www.analog.com/en/index.html; ComponentLink2Description: Datasheet; ComponentLink2URL: http://www.analog.com/static/imported-files/data_sheets/AD5025_5045_5065.pdf; ComponentLink3Description: Package Specification; ComponentLink3URL: http://www.analog.com/static/imported-files/packages/36057385283879153717235186773RU14.pdf; ComponentLink4Description: Product URL; ComponentLink4URL: http://www.analog.com/en/digital-to-analog-converters/da-converters/ad5045/products/product.html
footprint RU-14_N (TSOP, 14-Leads, Body 5x4.4mm, Pitch 0.65mm, IPC Medium Density)
footprint RU-14_L (TSOP, 14-Leads, Body 5x4.4mm, Pitch 0.65mm, IPC High Density)
footprint RU-14_M (TSOP, 14-Leads, Body 5x4.4mm, Pitch 0.65mm, IPC Low Density)
pins: 1 ~{LDAC} (in) "Pulsing this pin low allows any or all DAC registers to be updated if the input registers have new data. This allows all DAC outputs to simultaneously update. This pin can be tied permanently low in standalone mode. When (See Datasheet)", 2 ~{SYNC} (in) "Active Low Control Input. This is the frame synchronization signal for the input data. When S\Y\N\C\ goes low, it powers on the SCLK and DIN buffers and enables the input register. Data is transferred in on the falling edges (See Datasheet)", 3 VDD (power) "Power Supply Input. These parts can be operated from 4.5 V to 5.5 V, and the supply should be decoupled with a 10 uF capacitor in parallel with a 0.1 uF capacitor to GND.", 4 VREFA (in) "DAC A Reference Input. This is the reference voltage input pin for DAC A.", 5 VOUTA (hiz) "Analog Output Voltage from DAC A. The output amplifier has rail-to-rail operation.", 6 POR (in) "Power-On Reset Pin. Tying this pin to GND powers up the part to 0 V. Tying this pin to VDD powers up the part to midscale.", 7 SDO (out) "Serial Data Output. Can be used for daisy-chaining a number of these devices together or for reading back the data in the shift register for diagnostic purposes. The serial data is transferred on the rising edge of SCLK and (See Datasheet)", 8 ~{CLR} (in) "Asynchronous Clear Input. The C\L\R\ input is falling edge sensitive. When C\L\R\ is low, all L\D\A\C\ pulses are ignored. When C\L\R\ is activated, the input register and the DAC register are updated with the data contained (See Datasheet)", 9 VREFB (in) "DAC B Reference Input. This is the reference voltage input pin for DAC B.", 10 VOUTB (hiz) "Analog Output Voltage from DAC B. The output amplifier has rail-to-rail operation.", 11 GND (power) "Ground Reference Point for All Circuitry on the Part.", 12 ~{PDL} (in) "The P\D\L\ pin is used to ensure hardware shutdown lockout of the device under any circumstance. A Logic 1 at the P\L\O\ pin causes the device to behave as normal. The user may successfully enter software power-down over the (See Datasheet)", 13 DIN (in) "Serial Data Input. This device has a 32-bit shift register. Data is clocked into the register on the falling edge of the serial clock input.", 14 SCLK (in) "Serial Clock Input. Data is clocked into the input register on the falling edge of the serial clock input. Data can be transferred at rates of up to 50 MHz."

## AD5045BRUZ-REEL7
designator U?
Dual 14-Bit Fully Accurate nanoDAC with SPI Interface, -40 to +125 degC, RU-14, Pb-Free, Reel; Generic Part Number: AD5045; Manufacturer: Analog Devices; PartNumber: AD5045BRUZ-REEL7; # DAC Outputs: 2; Max V+: 5.5V; Op Pwr Diss: 13.5mW; Resolution (Bits): 14; Settling Time: 10.7µs; Single Supply: Yes; DatasheetVersion: Rev.0; PackageVersion: Aug-2002; PackageReference: RU-14; PackageDescription: 14-Lead Thin Shrink Small Outline Package [TSSOP]; Supplier 1: Digi-Key; Supplier Part Number 1: AD5045BRUZ-REEL7-ND; Supplier 2: Mouser; Supplier Part Number 2: 584-AD5045BRUZ-R7; Packing: Reel; RoHS: Y; Mounting Technology: Surface Mount; Code_JEDEC: MO-153-AB-1; ComponentLink1Description: Manufacturer URL; ComponentLink1URL: http://www.analog.com/en/index.html; ComponentLink2Description: Datasheet; ComponentLink2URL: http://www.analog.com/static/imported-files/data_sheets/AD5025_5045_5065.pdf; ComponentLink3Description: Package Specification; ComponentLink3URL: http://www.analog.com/static/imported-files/packages/36057385283879153717235186773RU14.pdf; ComponentLink4Description: Product URL; ComponentLink4URL: http://www.analog.com/en/digital-to-analog-converters/da-converters/ad5045/products/product.html
footprint RU-14_N (TSOP, 14-Leads, Body 5x4.4mm, Pitch 0.65mm, IPC Medium Density)
footprint RU-14_L (TSOP, 14-Leads, Body 5x4.4mm, Pitch 0.65mm, IPC High Density)
footprint RU-14_M (TSOP, 14-Leads, Body 5x4.4mm, Pitch 0.65mm, IPC Low Density)
pins: 1 ~{LDAC} (in) "Pulsing this pin low allows any or all DAC registers to be updated if the input registers have new data. This allows all DAC outputs to simultaneously update. This pin can be tied permanently low in standalone mode. When (See Datasheet)", 2 ~{SYNC} (in) "Active Low Control Input. This is the frame synchronization signal for the input data. When S\Y\N\C\ goes low, it powers on the SCLK and DIN buffers and enables the input register. Data is transferred in on the falling edges (See Datasheet)", 3 VDD (power) "Power Supply Input. These parts can be operated from 4.5 V to 5.5 V, and the supply should be decoupled with a 10 uF capacitor in parallel with a 0.1 uF capacitor to GND.", 4 VREFA (in) "DAC A Reference Input. This is the reference voltage input pin for DAC A.", 5 VOUTA (hiz) "Analog Output Voltage from DAC A. The output amplifier has rail-to-rail operation.", 6 POR (in) "Power-On Reset Pin. Tying this pin to GND powers up the part to 0 V. Tying this pin to VDD powers up the part to midscale.", 7 SDO (out) "Serial Data Output. Can be used for daisy-chaining a number of these devices together or for reading back the data in the shift register for diagnostic purposes. The serial data is transferred on the rising edge of SCLK and (See Datasheet)", 8 ~{CLR} (in) "Asynchronous Clear Input. The C\L\R\ input is falling edge sensitive. When C\L\R\ is low, all L\D\A\C\ pulses are ignored. When C\L\R\ is activated, the input register and the DAC register are updated with the data contained (See Datasheet)", 9 VREFB (in) "DAC B Reference Input. This is the reference voltage input pin for DAC B.", 10 VOUTB (hiz) "Analog Output Voltage from DAC B. The output amplifier has rail-to-rail operation.", 11 GND (power) "Ground Reference Point for All Circuitry on the Part.", 12 ~{PDL} (in) "The P\D\L\ pin is used to ensure hardware shutdown lockout of the device under any circumstance. A Logic 1 at the P\L\O\ pin causes the device to behave as normal. The user may successfully enter software power-down over the (See Datasheet)", 13 DIN (in) "Serial Data Input. This device has a 32-bit shift register. Data is clocked into the register on the falling edge of the serial clock input.", 14 SCLK (in) "Serial Clock Input. Data is clocked into the input register on the falling edge of the serial clock input. Data can be transferred at rates of up to 50 MHz."

## AD5060ARJZ-1REEL7
designator U?
Single 16-Bit Fully Accurate Voltage Output nanoDAC with SPI Interface, 2.7 to 5.5 V, -40 to +85 degC, RJ-8, Pb-Free, Reel; Generic Part Number: AD5060; Manufacturer: Analog Devices; PartNumber: AD5060ARJZ-1REEL7; # DAC Outputs: 1; Max V+: 5.5V; Op Pwr Diss: 6mW; Resolution (Bits): 16; Settling Time: 4µs; Single Supply: Yes; DatasheetVersion: Rev.A; PackageVersion: 121608-A; PackageReference: RJ-8; PackageDescription: 8-Lead Thin Small Outline Transistor Package [SOT-23]; Supplier 1: Digi-Key; Supplier Part Number 1: AD5060ARJZ-1REEL7TR-ND; Supplier 2: Digi-Key; Supplier Part Number 2: AD5060ARJZ-1REEL7CT-ND; Supplier 3: Digi-Key; Supplier Part Number 3: AD5060ARJZ-1REEL7DKR-ND; Supplier 4: Farnell; Supplier Part Number 4: 2314124; Supplier 5: Newark; Supplier Part Number 5: 12M8476; Supplier 6: Newark; Supplier Part Number 6: 67W3153; Supplier 7: Mouser; Supplier Part Number 7: 584-AD5060ARJZ-1R7; Packing: Reel; RoHS: Y; Mounting Technology: Surface Mount; Code_JEDEC: MO-178-BA; ComponentLink1Description: Manufacturer URL; ComponentLink1URL: http://www.analog.com/en/index.html; ComponentLink2Description: Datasheet; ComponentLink2URL: http://www.analog.com/static/imported-files/data_sheets/AD5040_5060.pdf; ComponentLink3Description: Package Specification; ComponentLink3URL: http://www.analog.com/static/imported-files/packages/PKG_PDF/SOT-23(RJ)/RJ_8.pdf; ComponentLink4Description: Product URL; ComponentLink4URL: http://www.analog.com/en/digital-to-analog-converters/da-converters/ad5060/products/product.html
footprint RJ-8_N (SOP, 8-Leads, Body 2.9x1.6mm, Pitch 0.65mm, IPC Medium Density)
footprint RJ-8_L (SOP, 8-Leads, Body 2.9x1.6mm, Pitch 0.65mm, IPC High Density)
footprint RJ-8_M (SOP, 8-Leads, Body 2.9x1.6mm, Pitch 0.65mm, IPC Low Density)
pins: 1 DIN (in) "Serial Data Input. These parts have a 16-/24-bit shift register. Data is clocked into the register on the falling edge of the serial clock input.", 2 VDD (power) "Power Supply Input. These parts can be operated from 2.7 V to 5.5 V and VDD should be decoupled to GND", 3 VREF (in) "Reference Voltage Input.", 4 VOUT (out) "Analog Output Voltage from DAC.", 5 AGND (power) "Ground Reference Point for Analog Circuitry.", 6 DACGND (power) "Ground Input to the DAC Core.", 7 ~{SYNC} (in) "Level-Triggered Control Input (Active Low). This is the frame synchronization signal for the input data. When S\Y\N\C\ goes low, it enables the input shift register and data is transferred in on the falling edges of the (See Datasheet)", 8 SCLK (in) "Serial Clock Input. Data is clocked into the input shift register on the falling edge of the serial clock input. Data can be transferred at rates up to 30 MHz."